# EAGLE library part QMC5883L (library LARS_409_MC)
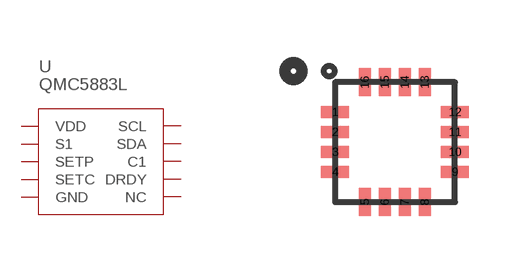
[diagram p39: symbol with the pads of QFN16(3X3)NOPAD; footprint QFN16(3X3)NOPAD]

Designator prefix U

## QMC5883L  [QFN16(3X3)NOPAD]
1  SCL
2  VDD
3  NC
4  S1
5  NC
6  NC
7  NC
8  SETP
9  GND
10  C1
11  GND
12  SETC
13  VDD
14  NC
15  DRDY
16  SDA

## Footprint QFN16(3X3)NOPAD (pad centres in mm)
smd 0.7 x 0.3: 1 -1.5,0.75; 2 -1.5,0.25; 3 -1.5,-0.25; 4 -1.5,-0.75; 9 1.5,-0.75; 10 1.5,-0.25; 11 1.5,0.25; 12 1.5,0.75
smd 0.3 x 0.7: 5 -0.75,-1.5; 6 -0.25,-1.5; 7 0.25,-1.5; 8 0.75,-1.5; 13 0.75,1.5; 14 0.25,1.5; 15 -0.25,1.5; 16 -0.75,1.5